# Altium footprint library 150505M173300.PcbLib: 1 footprints
Each footprint in its own frame and in the unit in brackets; x right, y up, seen from the top. Pads: shape width x height; smd on the part's side, far side on the other; paste and mask are expansions set on the pad; w line width, h text height; cw(c..) or ccw(c..) is an arc to the next point about the centre after c.
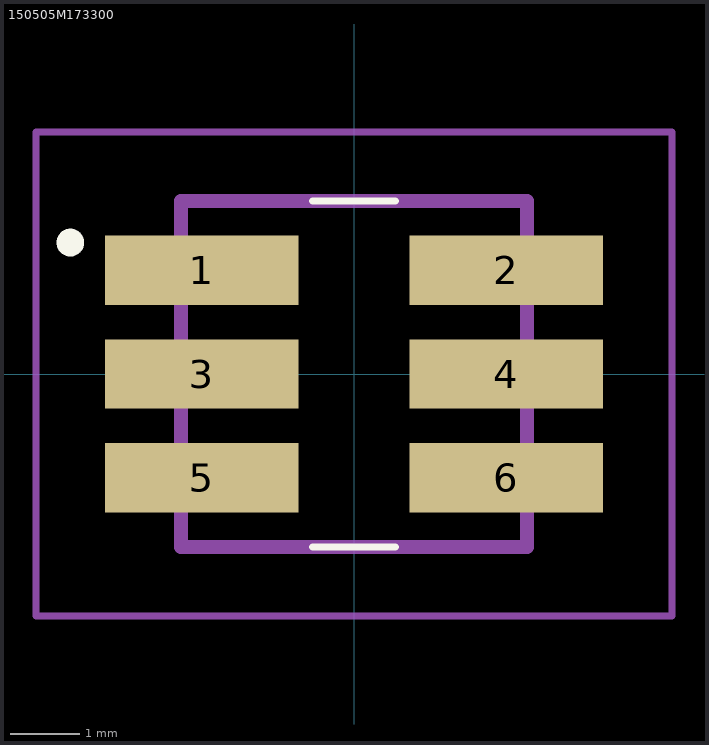
[diagram p0: the footprint, top view; thin cyan lines are the x and y axes]

## 150505M173300 [mm]
pads (6):
  rect 2.8x1 smd: 1(-2.2,1.5) 2(2.2,1.5) 3(-2.2,0) 4(2.2,0) 5(-2.2,-1.5) 6(2.2,-1.5)
Top Overlay:
  lines w0.1: -0.6,-2.5 0.6,-2.5 ; -0.6,2.5 0.6,2.5
  lines w0.2: -4.1,1.8 cw(c-4.1,1.9) -4.1,2 ; -4.1,1.8 -4.1,1.8 ; -4.1,1.8 ccw(c-4.1,1.9) -4.1,2 ; -4.1,2 -4.1,2
Mechanical 15:
  lines w0.2: -2.5,-2.5 2.5,-2.5 2.5,2.5 -2.5,2.5 -2.5,-2.5
Mechanical 20:
  lines w0.1: -4.6,-3.5 4.6,-3.5 4.6,3.5 -4.6,3.5 -4.6,-3.5